# Altium integrated library UU10_5.IntLib: 1 symbol
Pins are listed as number, name and electrical type; pins without a type are passive.

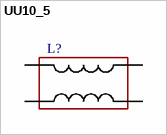
[diagram p0: symbol UU10_5]

## UU10_5
designator L?
footprint UU10_5
pins: 1, 2, 3, 4